# Altium footprint library Crystal.PcbLib: 185 footprints (part 7 of 12)
Each footprint in its own frame and in the unit in brackets; x right, y up, seen from the top. Pads: shape width x height; smd on the part's side, far side on the other; paste and mask are expansions set on the pad; w line width, h text height; cw(c..) or ccw(c..) is an arc to the next point about the centre after c.
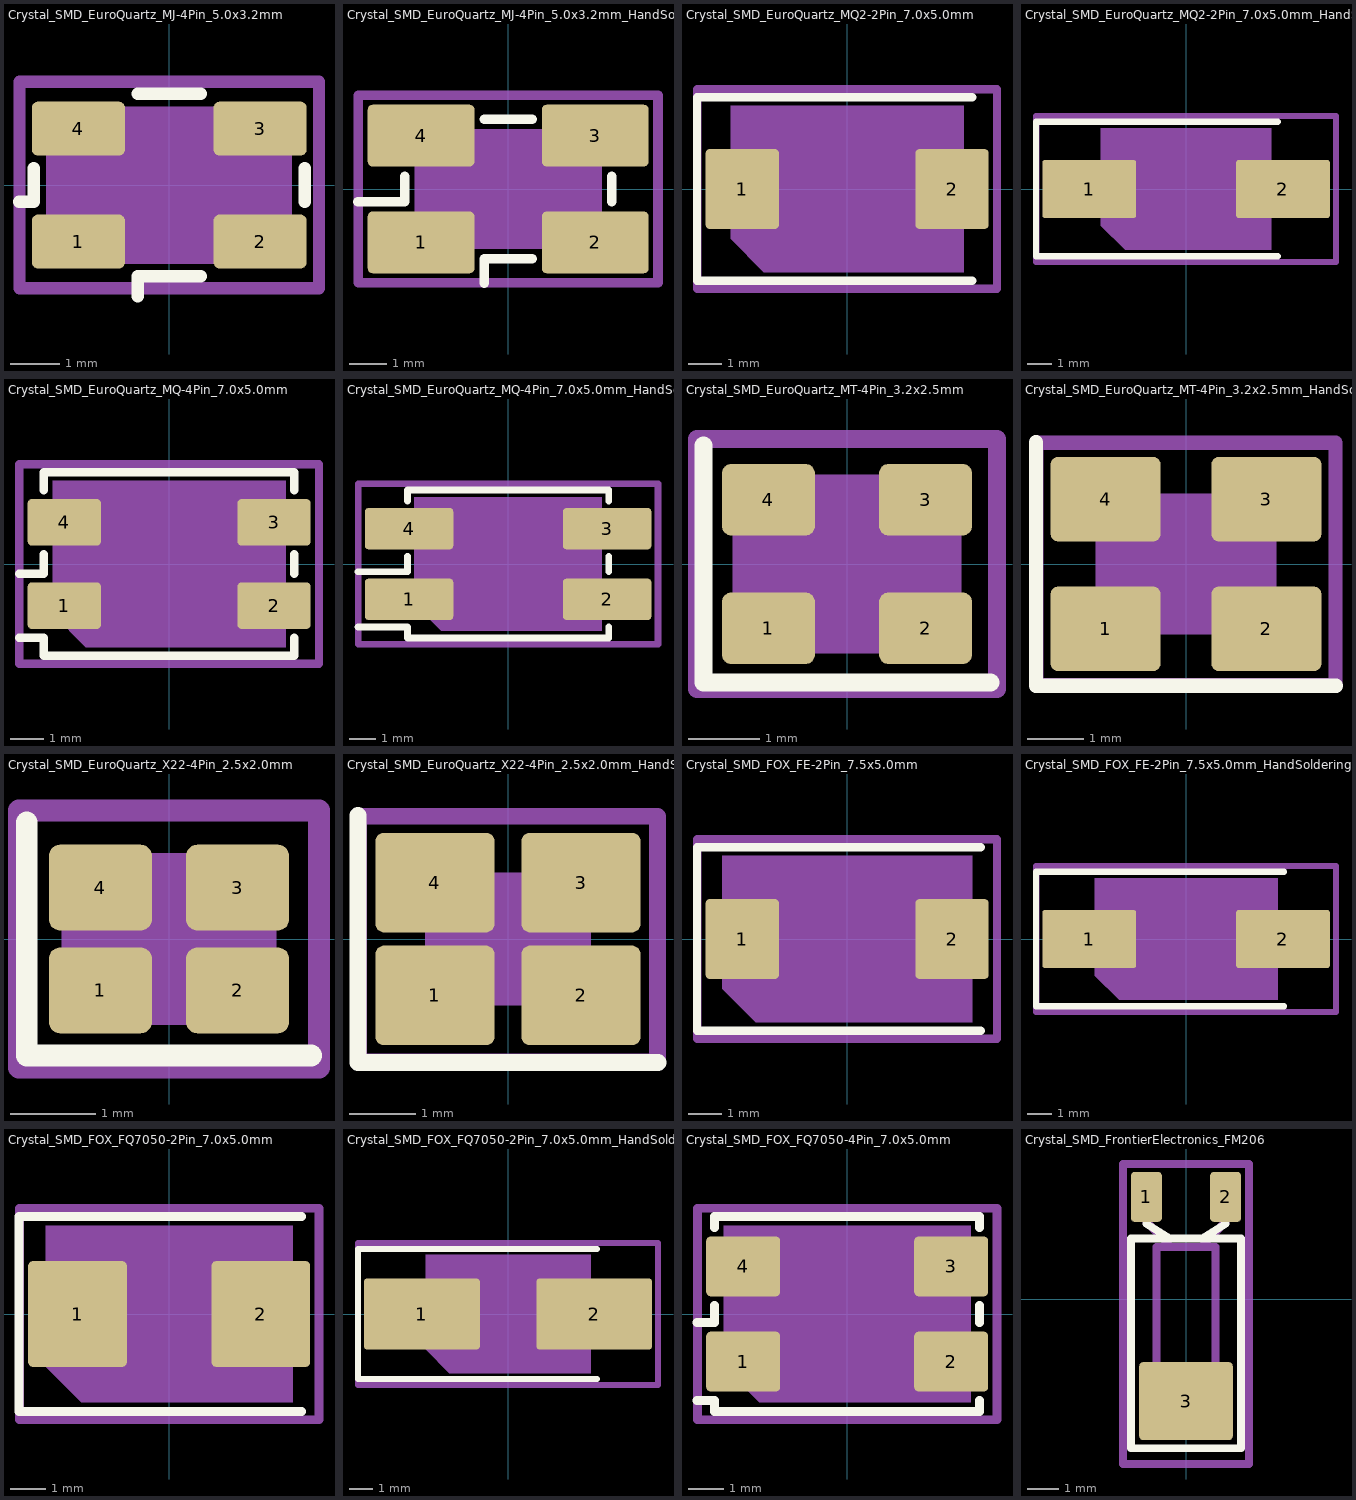
[diagram p6: the footprints below, top view; thin cyan lines are the x and y axes]

## Crystal_SMD_EuroQuartz_MJ-4Pin_5.0x3.2mm [mm]
pads (4):
  rrect23% 1.9x1.1 smd: 1(-1.85,-1.15) 2(1.85,-1.15) 3(1.85,1.15) 4(-1.85,1.15)
F.SilkS:
  lines w0.254: -3.06,-0.34 -2.76,-0.34 -2.76,0.34 ; -0.64,-2.26 -0.64,-1.86 0.64,-1.86 ; -0.64,1.86 0.64,1.86 ; 2.76,-0.34 2.76,0.34
Top Assembly:
  region: 2.5,-1.6 -1.7,-1.6 -2.5,-0.8 -2.5,1.6 2.5,1.6
  text "'.Designator'" at -4.047,-0.84 h1
Top Courtyard:
  lines w0.254: -3.05,-2.1 3.05,-2.1 3.05,2.1 -3.05,2.1 -3.05,-2.1
Top Designator:
  text ".Designator" at -7.768,-0.588 h1.52

## Crystal_SMD_EuroQuartz_MJ-4Pin_5.0x3.2mm_HandSoldering [mm]
pads (4):
  rrect15% 2.85x1.65 smd: 1(-2.325,-1.425) 2(2.325,-1.425) 3(2.325,1.425) 4(-2.325,1.425)
F.SilkS:
  lines w0.254: -4.01,-0.34 -2.76,-0.34 -2.76,0.34 ; -0.64,-2.51 -0.64,-1.86 0.64,-1.86 ; -0.64,1.86 0.64,1.86 ; 2.76,-0.34 2.76,0.34
Top Assembly:
  region: 2.5,-1.6 -1.7,-1.6 -2.5,-0.8 -2.5,1.6 2.5,1.6
  text "'.Designator'" at -4.047,-0.84 h1
Top Courtyard:
  lines w0.254: -4,-2.5 4,-2.5 4,2.5 -4,2.5 -4,-2.5
Top Designator:
  text ".Designator" at -7.652,-0.513 h1.52

## Crystal_SMD_EuroQuartz_MQ2-2Pin_7.0x5.0mm [mm]
pads (2):
  rrect11% 2.2x2.4 smd: 1(-3.15,0) 2(3.15,0)
F.SilkS:
  lines w0.254: 3.76,-2.76 -4.51,-2.76 -4.51,2.76 3.76,2.76
Top Assembly:
  region: 3.5,-2.5 -2.5,-2.5 -3.5,-1.5 -3.5,2.5 3.5,2.5
  text "'.Designator'" at -4.047,-0.84 h1
Top Courtyard:
  lines w0.254: -4.5,-3 4.5,-3 4.5,3 -4.5,3 -4.5,-3
Top Designator:
  text ".Designator" at -7.623,-0.508 h1.52

## Crystal_SMD_EuroQuartz_MQ2-2Pin_7.0x5.0mm_HandSoldering [mm]
pads (2):
  rrect10% 3.85x2.4 smd: 1(-3.975,0) 2(3.975,0)
F.SilkS:
  lines w0.254: 3.76,-2.76 -6.16,-2.76 -6.16,2.76 3.76,2.76
Top Assembly:
  region: 3.5,-2.5 -2.5,-2.5 -3.5,-1.5 -3.5,2.5 3.5,2.5
  text "'.Designator'" at -4.047,-0.84 h1
Top Courtyard:
  lines w0.254: -6.15,-3 6.15,-3 6.15,3 -6.15,3 -6.15,-3
Top Designator:
  text ".Designator" at -7.623,-0.508 h1.52

## Crystal_SMD_EuroQuartz_MQ-4Pin_7.0x5.0mm [mm]
pads (4):
  rrect18% 2.2x1.4 smd: 1(-3.15,-1.25) 2(3.15,-1.25) 3(3.15,1.25) 4(-3.15,1.25)
F.SilkS:
  lines w0.254: -4.51,-2.21 -3.76,-2.21 -3.76,-2.76 3.76,-2.76 3.76,-2.21 ; -4.51,-0.29 -3.76,-0.29 -3.76,0.29 ; -3.76,2.21 -3.76,2.76 3.76,2.76 3.76,2.21 ; 3.76,-0.29 3.76,0.29
Top Assembly:
  region: 3.5,-2.5 -2.5,-2.5 -3.5,-1.5 -3.5,2.5 3.5,2.5
  text "'.Designator'" at -4.047,-0.84 h1
Top Courtyard:
  lines w0.254: -4.5,-3 4.5,-3 4.5,3 -4.5,3 -4.5,-3
Top Designator:
  text ".Designator" at -7.623,-0.508 h1.52

## Crystal_SMD_EuroQuartz_MQ-4Pin_7.0x5.0mm_HandSoldering [mm]
pads (4):
  rrect16% 3.3x1.54 smd: 1(-3.7,-1.32) 2(3.7,-1.32) 3(3.7,1.32) 4(-3.7,1.32)
F.SilkS:
  lines w0.254: -5.61,-2.35 -3.76,-2.35 -3.76,-2.76 3.76,-2.76 3.76,-2.35 ; -5.61,-0.29 -3.76,-0.29 -3.76,0.29 ; -3.76,2.35 -3.76,2.76 3.76,2.76 3.76,2.35 ; 3.76,-0.29 3.76,0.29
Top Assembly:
  region: 3.5,-2.5 -2.5,-2.5 -3.5,-1.5 -3.5,2.5 3.5,2.5
  text "'.Designator'" at -4.047,-0.84 h1
Top Courtyard:
  lines w0.254: -5.6,-3 5.6,-3 5.6,3 -5.6,3 -5.6,-3
Top Designator:
  text ".Designator" at -7.623,-0.508 h1.52

## Crystal_SMD_EuroQuartz_MT-4Pin_3.2x2.5mm [mm]
pads (4):
  rrect25% 1.3x1 smd: 1(-1.1,-0.9) 2(1.1,-0.9) 3(1.1,0.9) 4(-1.1,0.9)
F.SilkS:
  lines w0.254: -2.01,1.66 -2.01,-1.66 2.01,-1.66
Top Assembly:
  region: 1.6,-1.25 -0.975,-1.25 -1.6,-0.625 -1.6,1.25 1.6,1.25
  text "'.Designator'" at -3.237,-0.672 h0.8
Top Courtyard:
  lines w0.254: -2.1,-1.75 -2.1,1.75 2.1,1.75 2.1,-1.75 -2.1,-1.75
Top Designator:
  text ".Designator" at -7.738,-0.508 h1.52

## Crystal_SMD_EuroQuartz_MT-4Pin_3.2x2.5mm_HandSoldering [mm]
pads (4):
  rrect17% 1.95x1.5 smd: 1(-1.425,-1.15) 2(1.425,-1.15) 3(1.425,1.15) 4(-1.425,1.15)
F.SilkS:
  lines w0.254: -2.66,2.16 -2.66,-2.16 2.66,-2.16
Top Assembly:
  region: 1.6,-1.25 -0.975,-1.25 -1.6,-0.625 -1.6,1.25 1.6,1.25
  text "'.Designator'" at -3.237,-0.672 h0.8
Top Courtyard:
  lines w0.254: -2.65,-2.15 -2.65,2.15 2.65,2.15 2.65,-2.15 -2.65,-2.15
Top Designator:
  text ".Designator" at -7.738,-0.508 h1.52

## Crystal_SMD_EuroQuartz_X22-4Pin_2.5x2.0mm [mm]
pads (4):
  rrect25% 1.2x1 smd: 1(-0.8,-0.6) 2(0.8,-0.6) 3(0.8,0.6) 4(-0.8,0.6)
F.SilkS:
  lines w0.254: -1.66,1.36 -1.66,-1.36 1.66,-1.36
Top Assembly:
  region: 1.25,-1 -0.75,-1 -1.25,-0.5 -1.25,1 1.25,1
  text "'.Designator'" at -2.506,-0.518 h0.62
Top Courtyard:
  lines w0.254: -1.75,-1.5 -1.75,1.5 1.75,1.5 1.75,-1.5 -1.75,-1.5
Top Designator:
  text ".Designator" at -7.708,-0.508 h1.52

## Crystal_SMD_EuroQuartz_X22-4Pin_2.5x2.0mm_HandSoldering [mm]
pads (4):
  rrect17% 1.8x1.5 smd: 1(-1.1,-0.85) 2(1.1,-0.85) 3(1.1,0.85) 4(-1.1,0.85)
F.SilkS:
  lines w0.254: -2.26,1.86 -2.26,-1.86 2.26,-1.86
Top Assembly:
  region: 1.25,-1 -0.75,-1 -1.25,-0.5 -1.25,1 1.25,1
  text "'.Designator'" at -2.506,-0.518 h0.62
Top Courtyard:
  lines w0.254: -2.25,-1.85 2.25,-1.85 2.25,1.85 -2.25,1.85 -2.25,-1.85
Top Designator:
  text ".Designator" at -7.708,-0.508 h1.52

## Crystal_SMD_FOX_FE-2Pin_7.5x5.0mm [mm]
pads (2):
  rrect11% 2.2x2.4 smd: 1(-3.15,0) 2(3.15,0)
F.SilkS:
  lines w0.254: 4.01,-2.76 -4.51,-2.76 -4.51,2.76 4.01,2.76
Top Assembly:
  region: 3.75,-2.5 -2.75,-2.5 -3.75,-1.5 -3.75,2.5 3.75,2.5
  text "'.Designator'" at -4.047,-0.84 h1
Top Courtyard:
  lines w0.254: -4.5,-3 -4.5,3 4.5,3 4.5,-3 -4.5,-3
Top Designator:
  text ".Designator" at -7.623,-0.508 h1.52
Top Glue Points (Mech27):
  circle w0.254: c0,0 r0.4

## Crystal_SMD_FOX_FE-2Pin_7.5x5.0mm_HandSoldering [mm]
pads (2):
  rrect10% 3.85x2.4 smd: 1(-3.975,0) 2(3.975,0)
F.SilkS:
  lines w0.254: 4.01,-2.76 -6.16,-2.76 -6.16,2.76 4.01,2.76
Top Assembly:
  region: 3.75,-2.5 -2.75,-2.5 -3.75,-1.5 -3.75,2.5 3.75,2.5
  text "'.Designator'" at -4.047,-0.84 h1
Top Courtyard:
  lines w0.254: -6.15,-3 6.15,-3 6.15,3 -6.15,3 -6.15,-3
Top Designator:
  text ".Designator" at -7.623,-0.508 h1.52
Top Glue Points (Mech27):
  circle w0.254: c0,0 r0.4

## Crystal_SMD_FOX_FQ7050-2Pin_7.0x5.0mm [mm]
pads (2):
  rrect9% 2.8x3 smd: 1(-2.6,0) 2(2.6,0)
F.SilkS:
  lines w0.254: 3.76,-2.76 -4.26,-2.76 -4.26,2.76 3.76,2.76
Top Assembly:
  region: 3.5,-2.5 -2.5,-2.5 -3.5,-1.5 -3.5,2.5 3.5,2.5
  text "'.Designator'" at -4.047,-0.84 h1
Top Courtyard:
  lines w0.254: -4.25,-3 4.25,-3 4.25,3 -4.25,3 -4.25,-3
Top Designator:
  text ".Designator" at -7.623,-0.508 h1.52
Top Glue Points (Mech27):
  circle w0.254: c0,0 r0.4

## Crystal_SMD_FOX_FQ7050-2Pin_7.0x5.0mm_HandSoldering [mm]
pads (2):
  rrect8% 4.9x3 smd: 1(-3.65,0) 2(3.65,0)
F.SilkS:
  lines w0.254: 3.76,-2.76 -6.36,-2.76 -6.36,2.76 3.76,2.76
Top Assembly:
  region: 3.5,-2.5 -2.5,-2.5 -3.5,-1.5 -3.5,2.5 3.5,2.5
  text "'.Designator'" at -4.047,-0.84 h1
Top Courtyard:
  lines w0.254: -6.35,-3 6.35,-3 6.35,3 -6.35,3 -6.35,-3
Top Designator:
  text ".Designator" at -7.623,-0.508 h1.52
Top Glue Points (Mech27):
  circle w0.254: c0,0 r0.4

## Crystal_SMD_FOX_FQ7050-4Pin_7.0x5.0mm [mm]
pads (4):
  rrect15% 2.1x1.7 smd: 1(-2.95,-1.35) 2(2.95,-1.35) 3(2.95,1.35) 4(-2.95,1.35)
F.SilkS:
  lines w0.254: -4.26,-2.46 -3.76,-2.46 -3.76,-2.76 3.76,-2.76 3.76,-2.46 ; -4.26,-0.24 -3.76,-0.24 -3.76,0.24 ; -3.76,2.46 -3.76,2.76 3.76,2.76 3.76,2.46 ; 3.76,-0.24 3.76,0.24
Top Assembly:
  region: 3.5,-2.5 -2.5,-2.5 -3.5,-1.5 -3.5,2.5 3.5,2.5
  text "'.Designator'" at -4.047,-0.84 h1
Top Courtyard:
  lines w0.254: -4.25,-3 4.25,-3 4.25,3 -4.25,3 -4.25,-3
Top Designator:
  text ".Designator" at -7.623,-0.508 h1.52

## Crystal_SMD_FrontierElectronics_FM206 [mm]
pads (3):
  rrect25% 1x1.6 smd: 1(-1.27,3.275) 2(1.27,3.275)
  rrect10% 3x2.5 smd: 3(0,-3.275)
F.SilkS:
  lines w0.254: -1.27,2.415 -0.5,1.935 ; 0.5,1.935 1.27,2.415 ; -1.76,-4.785 1.76,-4.785 1.76,1.935 -1.76,1.935 -1.76,-4.785
Top Assembly:
  lines w0.254: -1.27,3.275 -1.27,2.475 -0.5,1.675 ; 0.5,1.675 1.27,2.475 1.27,3.275 ; -0.95,-4.325 0.95,-4.325 0.95,1.675 -0.95,1.675 -0.95,-4.325
  text "'.Designator'" at 0.84,-5.488 h1
Top Courtyard:
  lines w0.254: -2.02,-5.29 2.02,-5.29 2.02,4.33 -2.02,4.33 -2.02,-5.29
Top Designator:
  text ".Designator" at -7.618,-1.098 h1.52